# EAGLE library part S25FL064P (library jkf)
64MBit SPI Memory
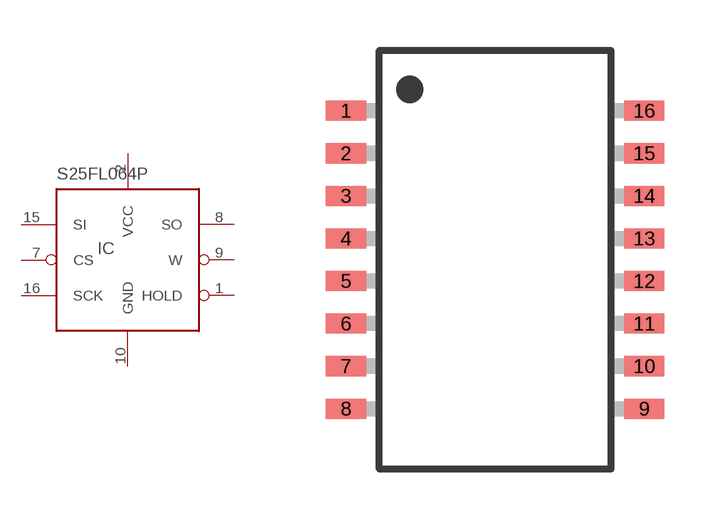
[diagram p8: symbol with the pads of SOIC-16; footprint SOIC-16]

Designator prefix IC

## S25FL064P  [SOIC-16]
1  HOLD  in
2  VCC  pwr
7  CS  in
8  SO  out
9  W  in
10  GND  pwr
15  SI  in
16  SCK  in

## Footprint SOIC-16 (pad centres in mm)
smd 1.2 x 0.6: 1 -4.445,4.445; 2 -4.445,3.175; 3 -4.445,1.905; 4 -4.445,0.635; 5 -4.445,-0.635; 6 -4.445,-1.905; 7 -4.445,-3.175; 8 -4.445,-4.445; 9 4.445,-4.445; 10 4.445,-3.175; 11 4.445,-1.905; 12 4.445,-0.635; 13 4.445,0.635; 14 4.445,1.905; 15 4.445,3.175; 16 4.445,4.445